# Altium schematic symbol library conn_header_idc.SchLib: 22 symbols
Pins are listed as number, name and electrical type; pins without a type are passive.

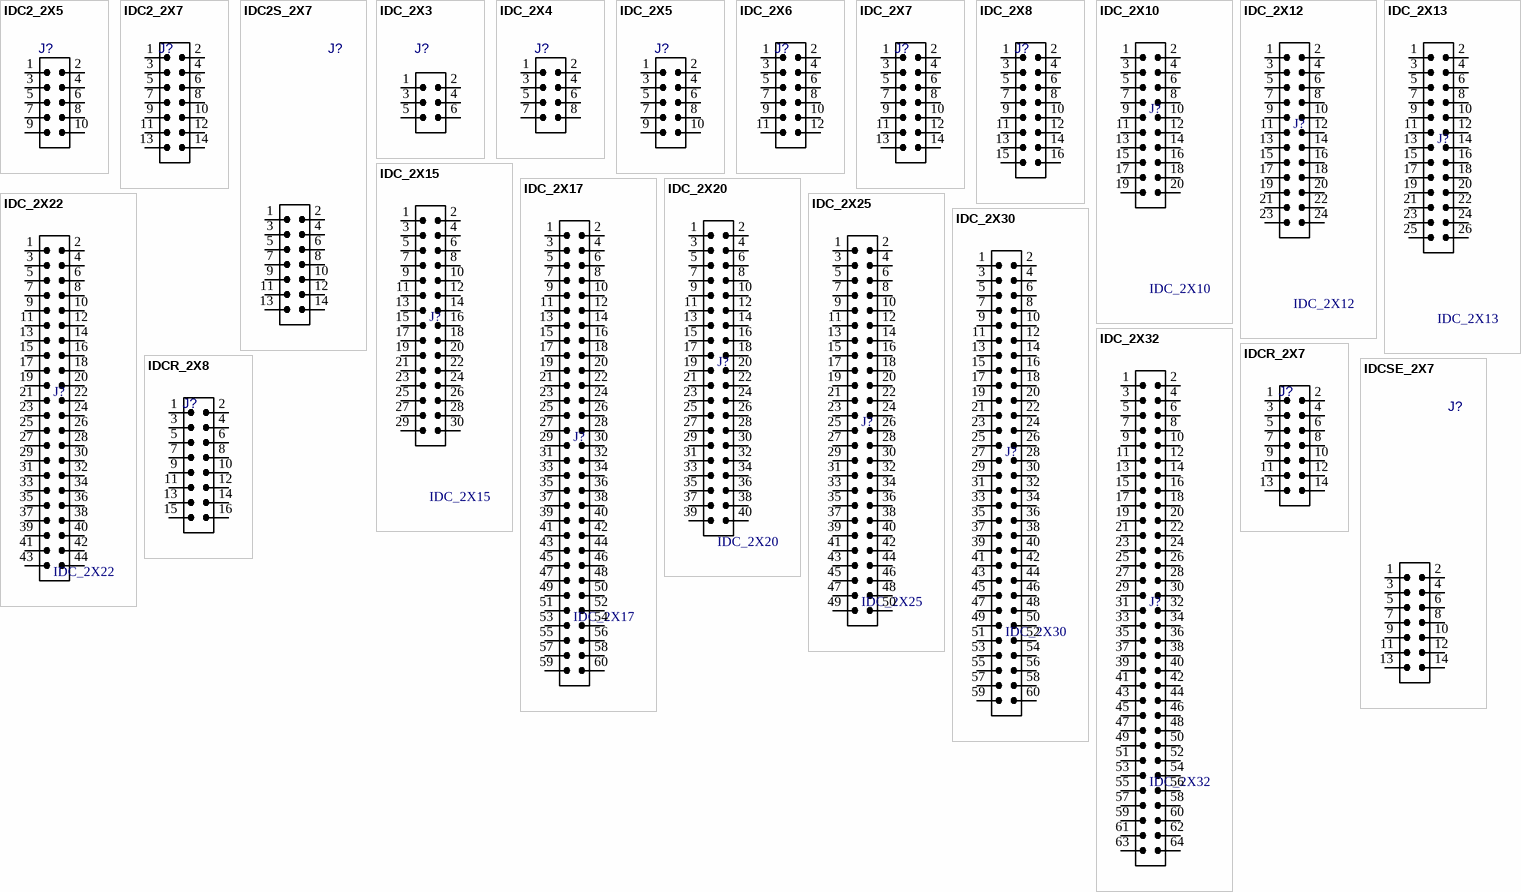
[diagram p0: symbols IDC2_2X5 to IDCSE_2X7]

## IDC2_2X5
designator J?  (value not drawn)
CONN, IDC, Male, pitch: 2.54mm, 10POS; VALUE: IDC2_2X5
footprint IDC2_2X5 (Connector; Header; 2mm Pitch)
pins: 1, 2, 3, 4, 5, 6, 7, 8, 9, 10

## IDC2_2X7
designator J?  (value not drawn)
CONN, IDC, Male, pitch: 2.54mm, 14POS; VALUE: IDC2_2X7
footprint IDC2_2X7 (Connector; Header; 2mm Pitch)
pins: 1, 2, 3, 4, 5, 6, 7, 8, 9, 10, 11, 12, 13, 14

## IDC2S_2X7
designator J?, comment IDC2_2X7  (value not drawn)
CONN, IDC, Male, pitch: 2.54mm, 14POS, SMD; MANF_P#: 87832-1420; MANF: MOLEX; DESC: CONN HEADER .100 DUAL; ASSEMBLY: ASSEMBLY; PARAM: PARAM; PRICE: PRICE; VALUE: IDC2_2X7
footprint IDC2S_2X7 (MOLEX 87832-1420)
pins: 1, 2, 3, 4, 5, 6, 7, 8, 9, 10, 11, 12, 13, 14

## IDC_2X3
designator J?  (value not drawn)
CONN, IDC, Male, pitch: 2.54mm, 6POS; VALUE: IDC_2X3
footprint IDC_2X3
pins: 1, 2, 3, 4, 5, 6

## IDC_2X4
designator J?  (value not drawn)
CONN, IDC, Male, pitch: 2.54mm, 8POS; VALUE: IDC_2X4
footprint IDC_2X4 (IDC, HEADER BOX 2X4, 8p, 2.54mm pitch)
pins: 1, 2, 3, 4, 5, 6, 7, 8

## IDC_2X5
designator J?  (value not drawn)
CONN, IDC, Male, pitch: 2.54mm, 10POS; VALUE: IDC_2X5
footprint IDC_2X5 (IDC, HEADER BOX 2X5, 10p, 2.54mm pitch)
pins: 1, 2, 3, 4, 5, 6, 7, 8, 9, 10

## IDC_2X6
designator J?  (value not drawn)
CONN, IDC, Male, pitch: 2.54mm, 12POS; VALUE: IDC_2X6
footprint IDC_2X6
pins: 1, 2, 3, 4, 5, 6, 7, 8, 9, 10, 11, 12

## IDC_2X7
designator J?  (value not drawn)
CONN, IDC, Male, pitch: 2.54mm, 14POS; VALUE: IDC_2X7
footprint IDC_2X7
pins: 1, 2, 3, 4, 5, 6, 7, 8, 9, 10, 11, 12, 13, 14

## IDC_2X8
designator J?  (value not drawn)
CONN, IDC, Male, pitch: 2.54mm, 16POS; VALUE: IDC_2X8
footprint IDC_2X8
pins: 1, 2, 3, 4, 5, 6, 7, 8, 9, 10, 11, 12, 13, 14, 15, 16

## IDC_2X10
designator J?
CONN, IDC, Male, pitch: 2.54mm, 20POS; VALUE: IDC_2X10
footprint IDC_2X10
pins: 1, 2, 3, 4, 5, 6, 7, 8, 9, 10, 11, 12, 13, 14, 15, 16, 17, 18, 19, 20

## IDC_2X12
designator J?
CONN, IDC, Male, pitch: 2.54mm, 24POS; VALUE: IDC_2X12
footprint IDC_2X12
pins: 1, 2, 3, 4, 5, 6, 7, 8, 9, 10, 11, 12, 13, 14, 15, 16, 17, 18, 19, 20, 21, 22, 23, 24

## IDC_2X13
designator J?
CONN, IDC, Male, pitch: 2.54mm, 26POS; VALUE: IDC_2X13
footprint IDC_2X13
pins: 1, 2, 3, 4, 5, 6, 7, 8, 9, 10, 11, 12, 13, 14, 15, 16, 17, 18, 19, 20, 21, 22, 23, 24, 25, 26

## IDC_2X15
designator J?
CONN, IDC, Male, pitch: 2.54mm, 30POS; VALUE: IDC_2X15
footprint IDC_2X15
pins: 1, 2, 3, 4, 5, 6, 7, 8, 9, 10, 11, 12, 13, 14, 15, 16, 17, 18, 19, 20, 21, 22, 23, 24, 25, 26, 27, 28, 29, 30

## IDC_2X17
designator J?
CONN, IDC, Male, pitch: 2.54mm, 34POS; VALUE: IDC_2X17
footprint IDC_2X17
pins: 1, 2, 3, 4, 5, 6, 7, 8, 9, 10, 11, 12, 13, 14, 15, 16, 17, 18, 19, 20, 21, 22, 23, 24, 25, 26, 27, 28, 29, 30, 31, 32, 33, 34, 35, 36, 37, 38, 39, 40, 41, 42, 43, 44, 45, 46, 47, 48, 49, 50, 51, 52, 53, 54, 55, 56, 57, 58, 59, 60

## IDC_2X20
designator J?
CONN, IDC, Male, pitch: 2.54mm, 40POS; VALUE: IDC_2X20
footprint IDC_2X20
pins: 1, 2, 3, 4, 5, 6, 7, 8, 9, 10, 11, 12, 13, 14, 15, 16, 17, 18, 19, 20, 21, 22, 23, 24, 25, 26, 27, 28, 29, 30, 31, 32, 33, 34, 35, 36, 37, 38, 39, 40

## IDC_2X22
designator J?
CONN, IDC, Male, pitch: 2.54mm, 44POS; VALUE: IDC_2X22
footprint IDC_2X22
pins: 1, 2, 3, 4, 5, 6, 7, 8, 9, 10, 11, 12, 13, 14, 15, 16, 17, 18, 19, 20, 21, 22, 23, 24, 25, 26, 27, 28, 29, 30, 31, 32, 33, 34, 35, 36, 37, 38, 39, 40, 41, 42, 43, 44

## IDC_2X25
designator J?
CONN, IDC, Male, pitch: 2.54mm, 50POS; VALUE: IDC_2X25
footprint IDC_2X25
pins: 1, 2, 3, 4, 5, 6, 7, 8, 9, 10, 11, 12, 13, 14, 15, 16, 17, 18, 19, 20, 21, 22, 23, 24, 25, 26, 27, 28, 29, 30, 31, 32, 33, 34, 35, 36, 37, 38, 39, 40, 41, 42, 43, 44, 45, 46, 47, 48, 49, 50

## IDC_2X30
designator J?
CONN, IDC, Male, pitch: 2.54mm, 60POS; VALUE: IDC_2X30
footprint IDC_2X30
pins: 1, 2, 3, 4, 5, 6, 7, 8, 9, 10, 11, 12, 13, 14, 15, 16, 17, 18, 19, 20, 21, 22, 23, 24, 25, 26, 27, 28, 29, 30, 31, 32, 33, 34, 35, 36, 37, 38, 39, 40, 41, 42, 43, 44, 45, 46, 47, 48, 49, 50, 51, 52, 53, 54, 55, 56, 57, 58, 59, 60

## IDC_2X32
designator J?
CONN, IDC, Male, pitch: 2.54mm, 64POS; VALUE: IDC_2X32
footprint IDC_2X32
pins: 1, 2, 3, 4, 5, 6, 7, 8, 9, 10, 11, 12, 13, 14, 15, 16, 17, 18, 19, 20, 21, 22, 23, 24, 25, 26, 27, 28, 29, 30, 31, 32, 33, 34, 35, 36, 37, 38, 39, 40, 41, 42, 43, 44, 45, 46, 47, 48, 49, 50, 51, 52, 53, 54, 55, 56, 57, 58, 59, 60, 61, 62, 63, 64

## IDCR_2X7
designator J?, comment IDC_2X7  (value not drawn)
CONN, IDC, Male, pitch: 2.54mm, 14POS, RightAngle; VALUE: IDC_2X7
footprint IDCR_2X7
pins: 1, 2, 3, 4, 5, 6, 7, 8, 9, 10, 11, 12, 13, 14

## IDCR_2X8
designator J?, comment IDC_2X8  (value not drawn)
CONN, IDC, Male, pitch: 2.54mm, 16POS, RightAngle; VALUE: IDC_2X8
footprint IDCR_2X8
pins: 1, 2, 3, 4, 5, 6, 7, 8, 9, 10, 11, 12, 13, 14, 15, 16

## IDCSE_2X7
designator J?, comment IDC_2X7  (value not drawn)
CONN, IDC, Male, pitch: 2.54mm, 14POS, SMD; DESC: CONN HEADER .100 DUAL; MANF_P#: -; MANF: -; ASSEMBLY: ASSEMBLY; PARAM: PARAM; PRICE: PRICE; VALUE: IDC_2X7
footprint IDCSE_2X7 (IDC, HEADER BOX 2X7, 14p, 2.54mm pitch, EDGE of Board)
pins: 1, 2, 3, 4, 5, 6, 7, 8, 9, 10, 11, 12, 13, 14